# EAGLE library part LM22676MRE-5.0/NOPB (library LM2267)
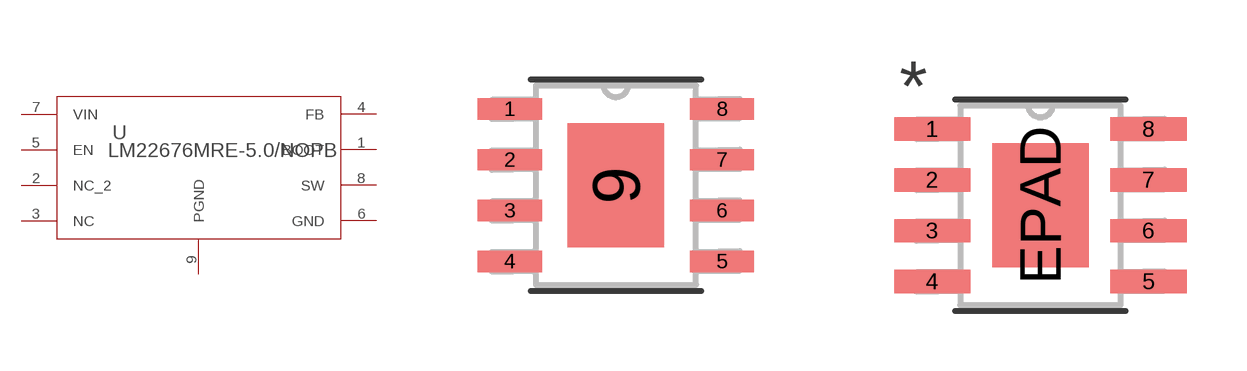
[diagram p0: symbol with the pads of MRA08B; footprints MRA08B, MRA08B-M]

Designator prefix U

## LM22676MRE-5.0/NOPB (MANUFACTURER_PART_NUMBER: LM22676MRE5.0NOPB; VENDOR: National Semiconductor)  [MRA08B]
1  BOOT  pas
2  NC_2  pas
3  NC  pas
4  FB  in
5  EN  in
6  GND  pwr
7  VIN  pwr
8  SW  pwr
9  PGND  pwr

## LM22676MRE-5.0/NOPBMRA08B-M (MANUFACTURER_PART_NUMBER: LM22676MRE5.0NOPB; VENDOR: National Semiconductor)  [MRA08B-M]
1  BOOT  pas
2  NC_2  pas
3  NC  pas
4  FB  in
5  EN  in
6  GND  pwr
7  VIN  pwr
8  SW  pwr

## LM22676MRE-5.0/NOPBMRA08B-L (MANUFACTURER_PART_NUMBER: LM22676MRE5.0NOPB; VENDOR: National Semiconductor)  [MRA08B-L]
Pads as for MRA08B-M

## Footprint MRA08B (pad centres in mm)
smd 1.6 x 0.533: 1 -2.654,1.905; 2 -2.654,0.635; 3 -2.654,-0.635; 4 -2.654,-1.905; 5 2.654,-1.905; 6 2.654,-0.635; 7 2.654,0.635; 8 2.654,1.905
smd 2.413 x 3.099: 9 0,0

## Footprint MRA08B-M (pad centres in mm)
smd 1.905 x 0.584: 1 -2.705,1.905; 2 -2.705,0.635; 3 -2.705,-0.635; 4 -2.705,-1.905; 5 2.705,-1.905; 6 2.705,-0.635; 7 2.705,0.635; 8 2.705,1.905
smd 2.413 x 3.099: EPAD 0,0

## Footprint MRA08B-L (pad centres in mm)
smd 1.295 x 0.483: 1 -2.603,1.905; 2 -2.603,0.635; 3 -2.603,-0.635; 4 -2.603,-1.905; 5 2.603,-1.905; 6 2.603,-0.635; 7 2.603,0.635; 8 2.603,1.905
smd 2.413 x 3.099: EPAD 0,0